# Altium footprint library LogoGIBIC.PcbLib: 9 footprints
Each footprint in its own frame and in the unit in brackets; x right, y up, seen from the top. Pads: shape width x height; smd on the part's side, far side on the other; paste and mask are expansions set on the pad; w line width, h text height; cw(c..) or ccw(c..) is an arc to the next point about the centre after c.
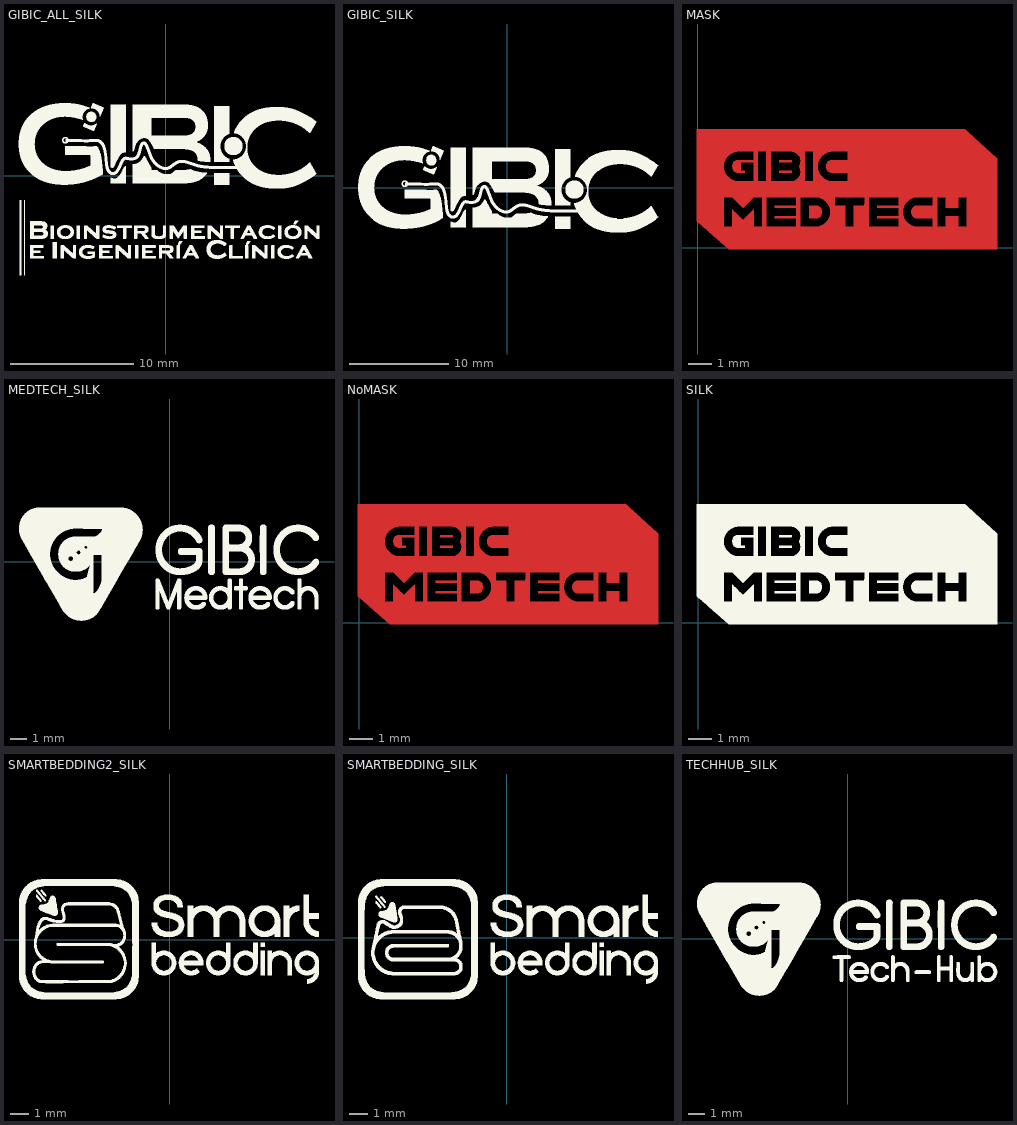
[diagram p0: the footprints below, top view; thin cyan lines are the x and y axes]

## GIBIC_ALL_SILK [mm]
Top Overlay:
  drawing of 3024 lines, arcs and shapes, not listed

## GIBIC_SILK [mm]
Top Overlay:
  drawing of 1295 lines, arcs and shapes, not listed

## MASK [mm]
Top Layer:
  drawing of 2385 lines, arcs and shapes, not listed

## MEDTECH_SILK [mm] "length 2cm"
Top Overlay:
  drawing of 3481 lines, arcs and shapes, not listed

## NoMASK [mm]
Top Layer:
  drawing of 2385 lines, arcs and shapes, not listed
Top Solder:
  drawing of 2385 lines, arcs and shapes, not listed

## SILK [mm]
Top Overlay:
  drawing of 2385 lines, arcs and shapes, not listed

## SMARTBEDDING2_SILK [mm]
Top Overlay:
  drawing of 3239 lines, arcs and shapes, not listed

## SMARTBEDDING_SILK [mm] "length 2mm"
Top Overlay:
  drawing of 3225 lines, arcs and shapes, not listed

## TECHHUB_SILK [mm]
Top Overlay:
  drawing of 3247 lines, arcs and shapes, not listed